# EAGLE library part ISL43210 (library Traficon)
Intersil SPDT single supply switch
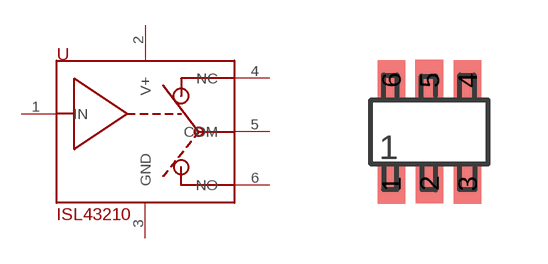
[diagram p77: symbol with the pads of SOT-23-6.PAC; footprint SOT-23-6.PAC]

Designator prefix U

## ISL43210  [SOT-23-6.PAC]
1  IN
2  V+
3  GND
4  NC
5  COM
6  NO

## Footprint SOT-23-6.PAC (pad centres in mm)
smd 0.686 x 0.991: 1 -0.953,-1.295; 2 0,-1.283; 3 0.953,-1.295; 4 0.953,1.295; 6 -0.953,1.295
smd 0.7 x 1: 5 0,1.3